# Altium schematic symbol library MCP3564RT-E_ST.SchLib: 1 symbol
Pins are listed as number, name and electrical type; pins without a type are passive.

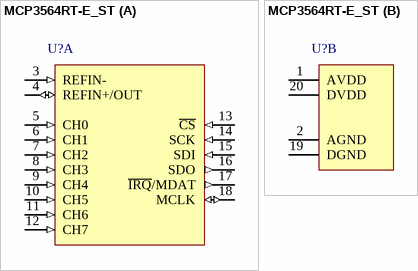
[diagram p0: symbol MCP3564RT-E_ST]

## MCP3564RT-E_ST
designator U?
part A pins: 3 REFIN- (in), 4 REFIN+/OUT (io), 5 CH0 (in), 6 CH1 (in), 7 CH2 (in), 8 CH3 (in), 9 CH4 (in), 10 CH5 (in), 11 CH6 (in), 12 CH7 (in), 13 ~{CS} (in), 14 SCK (in), 15 SDI (in), 16 SDO (out), 17 ~{IRQ}/MDAT (out), 18 MCLK (io)
part B pins: 1 AVDD (power), 2 AGND (power), 19 DGND (power), 20 DVDD (power)